# EAGLE library part ESP12 (library ESP-12)
ESP8266 Wifi module 12
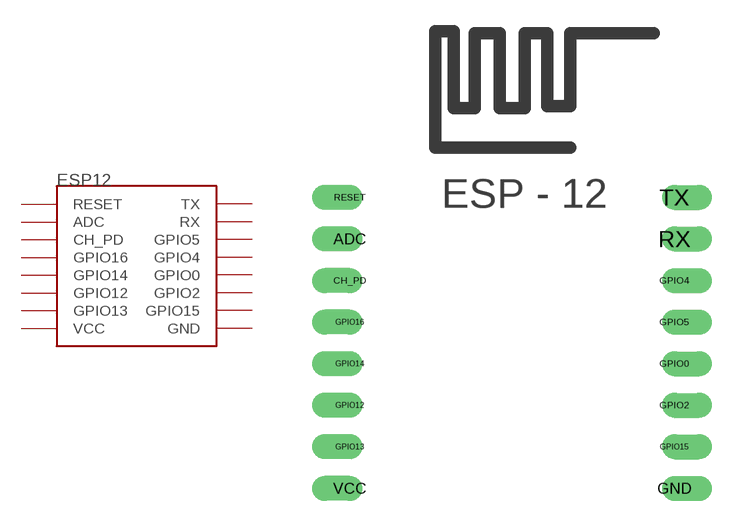
[diagram p0: symbol with the pads of ESP12; footprint ESP12]

Designator prefix -

## ESP12  [ESP12]
ADC  ADC
CH_PD  CH_PD
GND  GND
GPIO0  GPIO0
GPIO2  GPIO2
GPIO4  GPIO5
GPIO5  GPIO4
GPIO12  GPIO12
GPIO13  GPIO13
GPIO14  GPIO14
GPIO15  GPIO15
GPIO16  GPIO16
RESET  RESET
RX  RX
TX  TX
VCC  VCC

## Footprint ESP12 (pad centres in mm)
ESP8266 Module 12
drill 0.7 pad 1.016 offset: ADC -7.9,0.9; CH_PD -7.9,-1.1; GND 7.7,-11.1; GPIO0 7.7,-5.1; GPIO2 7.7,-7.1; GPIO4 7.7,-1.1; GPIO5 7.7,-3.1; GPIO12 -7.9,-7.1; GPIO13 -7.9,-9.1; GPIO14 -7.9,-5.1; GPIO15 7.7,-9.1; GPIO16 -7.9,-3.1; RESET -7.9,2.9; RX 7.7,0.9; TX 7.7,2.9; VCC -7.9,-11.1